# EAGLE library part 350432-1 (library con-amp)
Universal MATE-N-LOK .250" Centerline, 600 V, 19 - 36 A max Source: http://catalog.tycoelectronics.com/ .. ENG_CD_350432_W.pdf
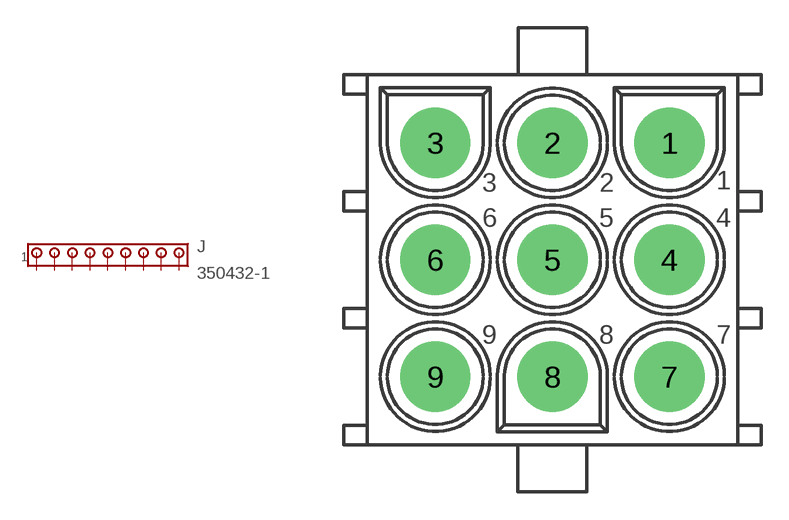
[diagram p174: symbol with the pads of 350432-1; footprint 350432-1]

Designator prefix J

## 350432-1  [350432-1]
1  1  pas
2  2  pas
3  3  pas
4  4  pas
5  5  pas
6  6  pas
7  7  pas
8  8  pas
9  9  pas

## Footprint 350432-1 (pad centres in mm)
Universal MATE-N-LOK .250" Centerline, 600 V, 19 - 36 A max Source: http://catalog.tycoelectronics.com/ .. ENG_CD_350432_W.pdf
drill 1.8 pad 3.81: 1 6.35,6.35; 2 0,6.35; 3 -6.35,6.35; 4 6.35,0; 5 0,0; 6 -6.35,0; 7 6.35,-6.35; 8 0,-6.35; 9 -6.35,-6.35